# EAGLE library part BNO055_BREAKOUT (library SAE_2019)
https://learn.adafruit.com/adafruit-bno055-absolute-orientation-sensor?view=all
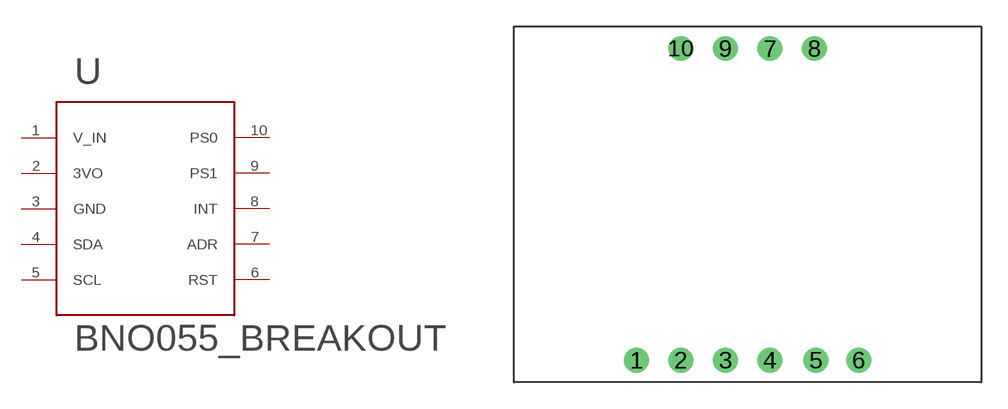
[diagram p10: symbol with the pads of BNO055_BREAKOUT; footprint BNO055_BREAKOUT]

Designator prefix -

## BNO055_BREAKOUT  [BNO055_BREAKOUT]
1  V_IN
2  3VO
3  GND
4  SDA
5  SCL
6  RST
7  ADR
8  INT
9  PS1
10  PS0

## Footprint BNO055_BREAKOUT (pad centres in mm)
drill 0.9: 1 -6.35,-8.89; 2 -3.81,-8.89; 3 -1.27,-8.89; 4 1.27,-8.89; 5 3.89,-8.89; 6 6.35,-8.89; 7 1.27,8.89; 8 3.81,8.89; 9 -1.27,8.89; 10 -3.81,8.89